# Altium footprint library MergenElektronik_Transistors_Mosfets.PcbLib: 4 footprints
Each footprint in its own frame and in the unit in brackets; x right, y up, seen from the top. Pads: shape width x height; smd on the part's side, far side on the other; paste and mask are expansions set on the pad; w line width, h text height; cw(c..) or ccw(c..) is an arc to the next point about the centre after c.
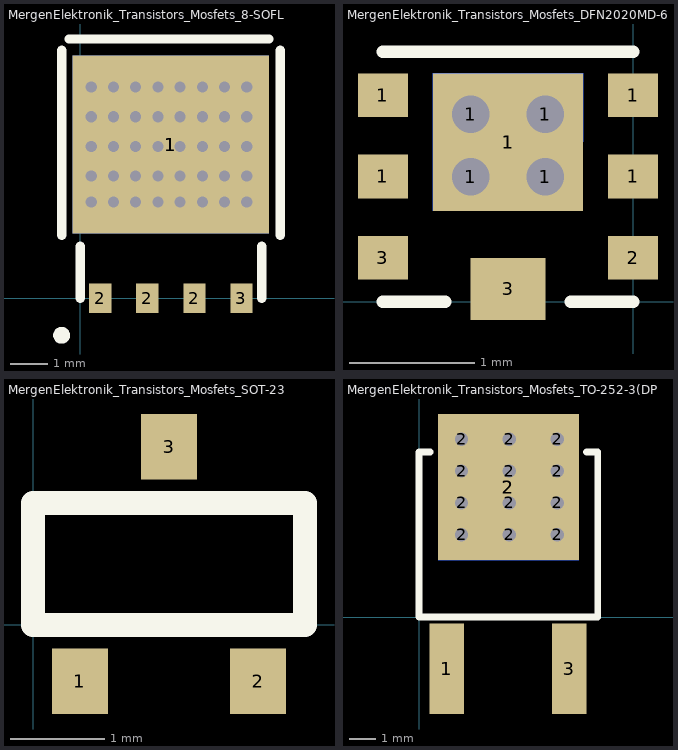
[diagram p0: the footprints below, top view; thin cyan lines are the x and y axes]

## MergenElektronik_Transistors_Mosfets_8-SOFL [mm] "8-SOFL"
pads (6):
  rect 5.3x4.8 smd far side: 1(2.45,4.15)
  rect 5.3x4.8 smd: 1(2.45,4.15)
  rect 0.6x0.8 smd: 2(0.545,0) 2(1.815,0) 2(3.085,0) 3(4.355,0)
via 3.3,5.7 diameter 0.5 hole 0.3
via 4.5,5.7 diameter 0.5 hole 0.3
via 3.9,5.7 diameter 0.5 hole 0.3
via 2.7,5.7 diameter 0.5 hole 0.3
via 2.1,5.7 diameter 0.5 hole 0.3
via 1.5,5.7 diameter 0.5 hole 0.3
via 0.9,5.7 diameter 0.5 hole 0.3
via 0.3,5.7 diameter 0.5 hole 0.3
via 3.3,4.9 diameter 0.5 hole 0.3
via 4.5,4.9 diameter 0.5 hole 0.3
via 3.9,4.9 diameter 0.5 hole 0.3
via 2.7,4.9 diameter 0.5 hole 0.3
via 2.1,4.9 diameter 0.5 hole 0.3
via 1.5,4.9 diameter 0.5 hole 0.3
via 0.9,4.9 diameter 0.5 hole 0.3
via 0.3,4.9 diameter 0.5 hole 0.3
via 3.3,4.1 diameter 0.5 hole 0.3
via 4.5,4.1 diameter 0.5 hole 0.3
via 3.9,4.1 diameter 0.5 hole 0.3
via 2.7,4.1 diameter 0.5 hole 0.3
via 2.1,4.1 diameter 0.5 hole 0.3
via 1.5,4.1 diameter 0.5 hole 0.3
via 0.9,4.1 diameter 0.5 hole 0.3
via 0.3,4.1 diameter 0.5 hole 0.3
via 3.3,3.3 diameter 0.5 hole 0.3
via 4.5,3.3 diameter 0.5 hole 0.3
via 3.9,3.3 diameter 0.5 hole 0.3
via 2.7,3.3 diameter 0.5 hole 0.3
via 2.1,3.3 diameter 0.5 hole 0.3
via 1.5,3.3 diameter 0.5 hole 0.3
via 0.9,3.3 diameter 0.5 hole 0.3
via 0.3,3.3 diameter 0.5 hole 0.3
via 3.3,2.6 diameter 0.5 hole 0.3
via 4.5,2.6 diameter 0.5 hole 0.3
via 3.9,2.6 diameter 0.5 hole 0.3
via 2.7,2.6 diameter 0.5 hole 0.3
via 2.1,2.6 diameter 0.5 hole 0.3
via 1.5,2.6 diameter 0.5 hole 0.3
via 0.9,2.6 diameter 0.5 hole 0.3
via 0.3,2.6 diameter 0.5 hole 0.3
Top Overlay:
  circle w0.254: c-0.5,-1 r0.1
  lines w0.254: -0.5,1.7 -0.5,6.7 ; -0.3,7 5.1,7 ; 0,0 0,1.4 ; 4.9,0 4.9,1.4 ; 5.4,1.7 5.4,6.7
3D body "SO-8FL.STEP": height 0.95, standoff -0.05, extent -0.146,-0.063 5.054,6.037

## MergenElektronik_Transistors_Mosfets_DFN2020MD-6 [mm] "DFN2020MD-6"
pads (13):
  rect 0.4x0.35 smd: 1(-2,1) 1(-2,1.65) 1(0,1) 1(0,1.65) 2(0,0.35) 3(-2,0.35)
  round 0.4 hole 0.3: 1(-1.3,1) 1(-1.3,1.5) 1(-0.7,1) 1(-0.7,1.5)
  rect 1.2x1.1 smd: 1(-1,1.275)
  rect 1.2x1.1 smd far side: 1(-1,1.275)
  rect 0.6x0.5 smd: 3(-1,0.1)
Top Overlay:
  lines w0.1: -2,0 -1.5,0 ; -2,2 0,2 ; -0.5,0 0,0
3D body "PMPB14XNX.step": height 0.65, standoff 0, extent -2.04,0 0,2

## MergenElektronik_Transistors_Mosfets_SOT-23 [mm] "SOT-23"
pads (3):
  rect 0.6x0.7 smd: 1(0.5,-0.6) 2(2.4,-0.6) 3(1.45,1.9)
Top Overlay:
  lines w0.254: 0,0 0,1.3 2.9,1.3 2.9,0 0,0
3D body "SOT23-3.step": height 1.1, standoff 0, extent -0.05,-0.65 2.95,1.85

## MergenElektronik_Transistors_Mosfets_TO-252-3(DPAK) [mm] "TO-252-3 DPAK"
pads (16):
  rect 1.3x3.4 smd: 1(1.05,-1.95) 3(5.65,-1.95)
  round 0.8 hole 0.5: 2(1.6,3.1) 2(1.6,4.3) 2(1.6,5.5) 2(1.6,6.7) 2(3.4,3.1) 2(3.4,4.3) 2(3.4,5.5) 2(3.4,6.7) 2(5.2,3.1) 2(5.2,4.3) 2(5.2,5.5) 2(5.2,6.7)
  rect 5.3x5.5 smd far side: 2(3.365,4.9)
  rect 5.3x5.5 smd: 2(3.365,4.9)
Top Overlay:
  lines w0.254: 0.42,6.22 0,6.22 0,0 6.73,0 6.73,6.22 6.31,6.22
3D body "TO-252AA-IRF.stp": height 2.39, standoff 0, extent 0.044,-2.807 6.756,7.607